# EAGLE library part GRPB132VWQP (library con-sullins-grpb)
HEADER
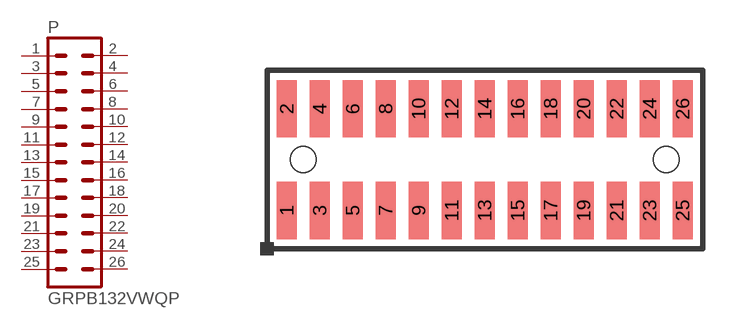
[diagram p10: symbol with the pads of GRPB132VWQP; footprint GRPB132VWQP]

Designator prefix P

## GRPB132VWQP  [GRPB132VWQP]
1  1  pas
2  2  pas
3  3  pas
4  4  pas
5  5  pas
6  6  pas
7  7  pas
8  8  pas
9  9  pas
10  10  pas
11  11  pas
12  12  pas
13  13  pas
14  14  pas
15  15  pas
16  16  pas
17  17  pas
18  18  pas
19  19  pas
20  20  pas
21  21  pas
22  22  pas
23  23  pas
24  24  pas
25  25  pas
26  26  pas

## Footprint GRPB132VWQP (pad centres in mm)
HEADER
smd 0.762 x 2.21: 1 -7.62,-1.956; 2 -7.62,1.956; 3 -6.35,-1.956; 4 -6.35,1.956; 5 -5.08,-1.956; 6 -5.08,1.956; 7 -3.81,-1.956; 8 -3.81,1.956; 9 -2.54,-1.956; 10 -2.54,1.956; 11 -1.27,-1.956; 12 -1.27,1.956; 13 0,-1.956; 14 0,1.956; 15 1.27,-1.956; 16 1.27,1.956; 17 2.54,-1.956; 18 2.54,1.956; 19 3.81,-1.956; 20 3.81,1.956; 21 5.08,-1.956; 22 5.08,1.956; 23 6.35,-1.956; 24 6.35,1.956; 25 7.62,-1.956; 26 7.62,1.956
hole 1 at -6.985,0
hole 1 at 6.985,0